# Altium schematic symbol library power-systems-v3.SchLib: 15 symbols
Pins are listed as number, name and electrical type; pins without a type are passive.

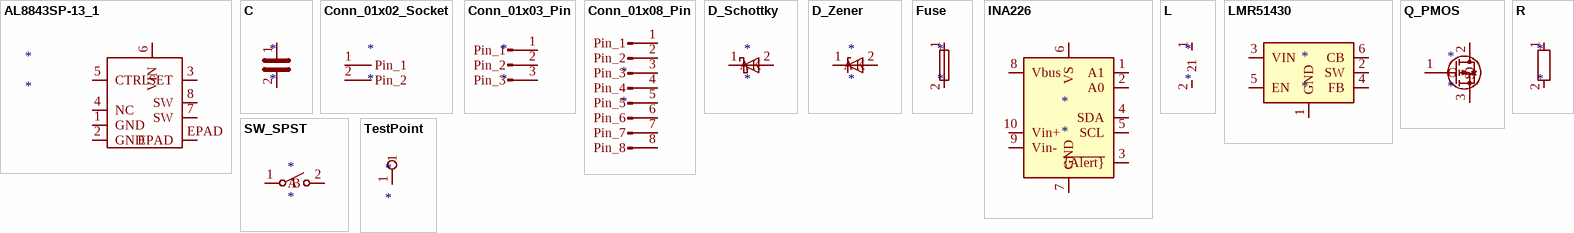
[diagram p0: symbols AL8843SP-13_1 to TestPoint]

## AL8843SP-13_1
designator *
pins: 1 GND, 2 GND, 3 SET, 4 NC, 5 CTRL, 6 VIN, 7 SW, 8 SW, EPAD

## C
designator *
pins: 1, 2

## Conn_01x02_Socket
designator *
pins: 1 Pin_1, 2 Pin_2

## Conn_01x03_Pin
designator *
pins: 1 Pin_1, 2 Pin_2, 3 Pin_3

## Conn_01x08_Pin
designator *
pins: 1 Pin_1, 2 Pin_2, 3 Pin_3, 4 Pin_4, 5 Pin_5, 6 Pin_6, 7 Pin_7, 8 Pin_8

## D_Schottky
designator *
pins: 1 K, 2 A

## D_Zener
designator *
pins: 1 K, 2 A

## Fuse
designator *
pins: 1, 2

## INA226
designator *
pins: 1 A1, 2 A0, 3 ~{{Alert}}, 4 SDA, 5 SCL, 6 VS, 7 GND, 8 Vbus, 9 Vin-, 10 Vin+

## L
designator *
pins: 1, 2

## LMR51430
designator *
pins: 1 GND, 2 SW, 3 VIN, 4 FB, 5 EN, 6 CB

## Q_PMOS
designator *
pins: 1 G, 2 D, 3 S

## R
designator *
pins: 1, 2

## SW_SPST
designator *
pins: 1 A, 2 B

## TestPoint
designator *
pins: 1